# EAGLE library part LM324PW (library Texas Instruments_By_element14_Batch_1)
IC QUAD OP AMP
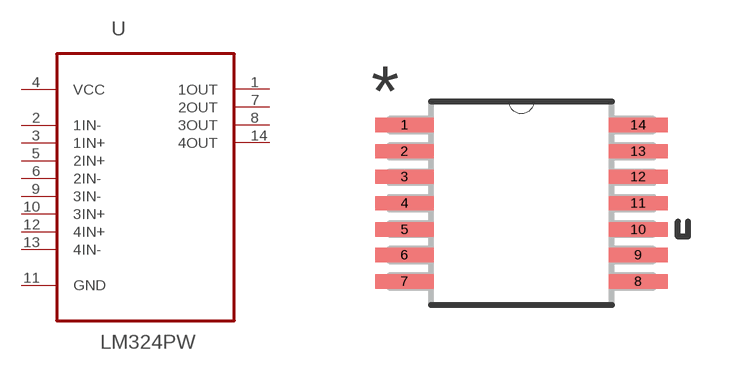
[diagram p0: symbol with the pads of SOP65P640X120-14N; footprint SOP65P640X120-14N]

Designator prefix U

## LM324PW (MPN: LM324PW; OC_FARNELL: 8389241; OC_NEWARK: 38K3709; PACKAGE: 14-TSSOP; SUPPLIER: Texas Instruments)  [SOP65P640X120-14N]
1  1OUT  out
2  1IN-  in
3  1IN+  in
4  VCC  pwr
5  2IN+  in
6  2IN-  in
7  2OUT  out
8  3OUT  out
9  3IN-  in
10  3IN+  in
11  GND  pas
12  4IN+  in
13  4IN-  in
14  4OUT  out

## Footprint SOP65P640X120-14N (pad centres in mm)
smd 1.473 x 0.356: 1 -2.921,1.956; 2 -2.921,1.295; 3 -2.921,0.66; 4 -2.921,0; 5 -2.921,-0.66; 6 -2.921,-1.295; 7 -2.921,-1.956; 8 2.921,-1.956; 9 2.921,-1.295; 10 2.921,-0.66; 11 2.921,0; 12 2.921,0.66; 13 2.921,1.295; 14 2.921,1.956